# Altium schematic symbol library ATMEGA328PB-AU.SchLib: 1 symbol
Pins are listed as number, name and electrical type; pins without a type are passive.

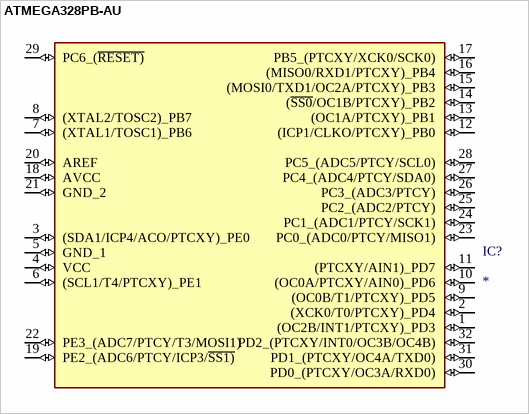
[diagram p0: symbol ATMEGA328PB-AU]

## ATMEGA328PB-AU
designator IC?
AVR AVR® ATmega, Functional Safety (FuSa) Microcontroller IC 8-Bit 20MHz 32KB (16K x 16) FLASH 32-TQFP (7x7); MF: Microchip Technology; MP: ATMEGA328PBAU; SnapEDA_Link: https://www.snapeda.com/parts/ATMEGA328PBAU/Microchip+Technology/view-part/?ref=snap; Package: None; Value: *; Check_prices: https://www.snapeda.com/parts/ATMEGA328PBAU/Microchip+Technology/view-part/?ref=eda
footprint QFP80P900X900X120-32N
pins: 1 (OC2B/INT1/PTCXY)_PD3 (io), 2 (XCK0/T0/PTCXY)_PD4 (io), 3 (SDA1/ICP4/ACO/PTCXY)_PE0 (io), 4 VCC (io), 5 GND_1 (io), 6 (SCL1/T4/PTCXY)_PE1 (io), 7 (XTAL1/TOSC1)_PB6 (io), 8 (XTAL2/TOSC2)_PB7 (io), 9 (OC0B/T1/PTCXY)_PD5 (io), 10 (OC0A/PTCXY/AIN0)_PD6 (io), 11 (PTCXY/AIN1)_PD7 (io), 12 (ICP1/CLKO/PTCXY)_PB0 (io), 13 (OC1A/PTCXY)_PB1 (io), 14 (~{SS0}/OC1B/PTCXY)_PB2 (io), 15 (MOSI0/TXD1/OC2A/PTCXY)_PB3 (io), 16 (MISO0/RXD1/PTCXY)_PB4 (io), 17 PB5_(PTCXY/XCK0/SCK0) (io), 18 AVCC (io), 19 PE2_(ADC6/PTCY/ICP3/~{SS1)} (io), 20 AREF (io), 21 GND_2 (io), 22 PE3_(ADC7/PTCY/T3/MOSI1) (io), 23 PC0_(ADC0/PTCY/MISO1) (io), 24 PC1_(ADC1/PTCY/SCK1) (io), 25 PC2_(ADC2/PTCY) (io), 26 PC3_(ADC3/PTCY) (io), 27 PC4_(ADC4/PTCY/SDA0) (io), 28 PC5_(ADC5/PTCY/SCL0) (io), 29 PC6_(~{RESET)} (io), 30 PD0_(PTCXY/OC3A/RXD0) (io), 31 PD1_(PTCXY/OC4A/TXD0) (io), 32 PD2_(PTCXY/INT0/OC3B/OC4B) (io)